# EAGLE library part J1962M (library customics)
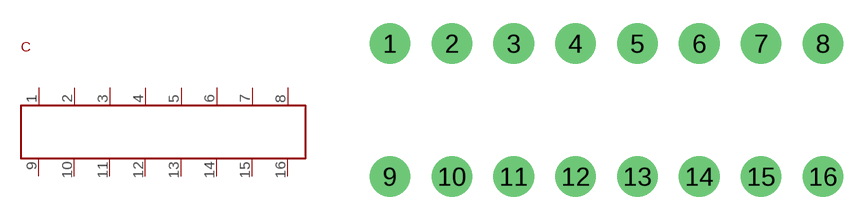
[diagram p3: symbol with the pads of J1962M; footprint J1962M]

Designator prefix C

## J1962M  [J1962M]
1  1
2  2
3  3
4  4
5  5
6  6
7  7
8  8
9  9
10  10
11  11
12  12
13  13
14  14
15  15
16  16

## Footprint J1962M (pad centres in mm)
J1962 PIN HEADER
drill 1.75: 1 -14,4.3; 2 -10,4.3; 3 -6,4.3; 4 -2,4.3; 5 2,4.3; 6 6,4.3; 7 10,4.3; 8 14,4.3; 9 -14,-4.3; 10 -10,-4.3; 11 -6,-4.3; 12 -2,-4.3; 13 2,-4.3; 14 6,-4.3; 15 10,-4.3; 16 14,-4.3